# Altium footprint library Diode.PcbLib: 27 footprints (part 1 of 2)
Each footprint in its own frame and in the unit in brackets; x right, y up, seen from the top. Pads: shape width x height; smd on the part's side, far side on the other; paste and mask are expansions set on the pad; w line width, h text height; cw(c..) or ccw(c..) is an arc to the next point about the centre after c.
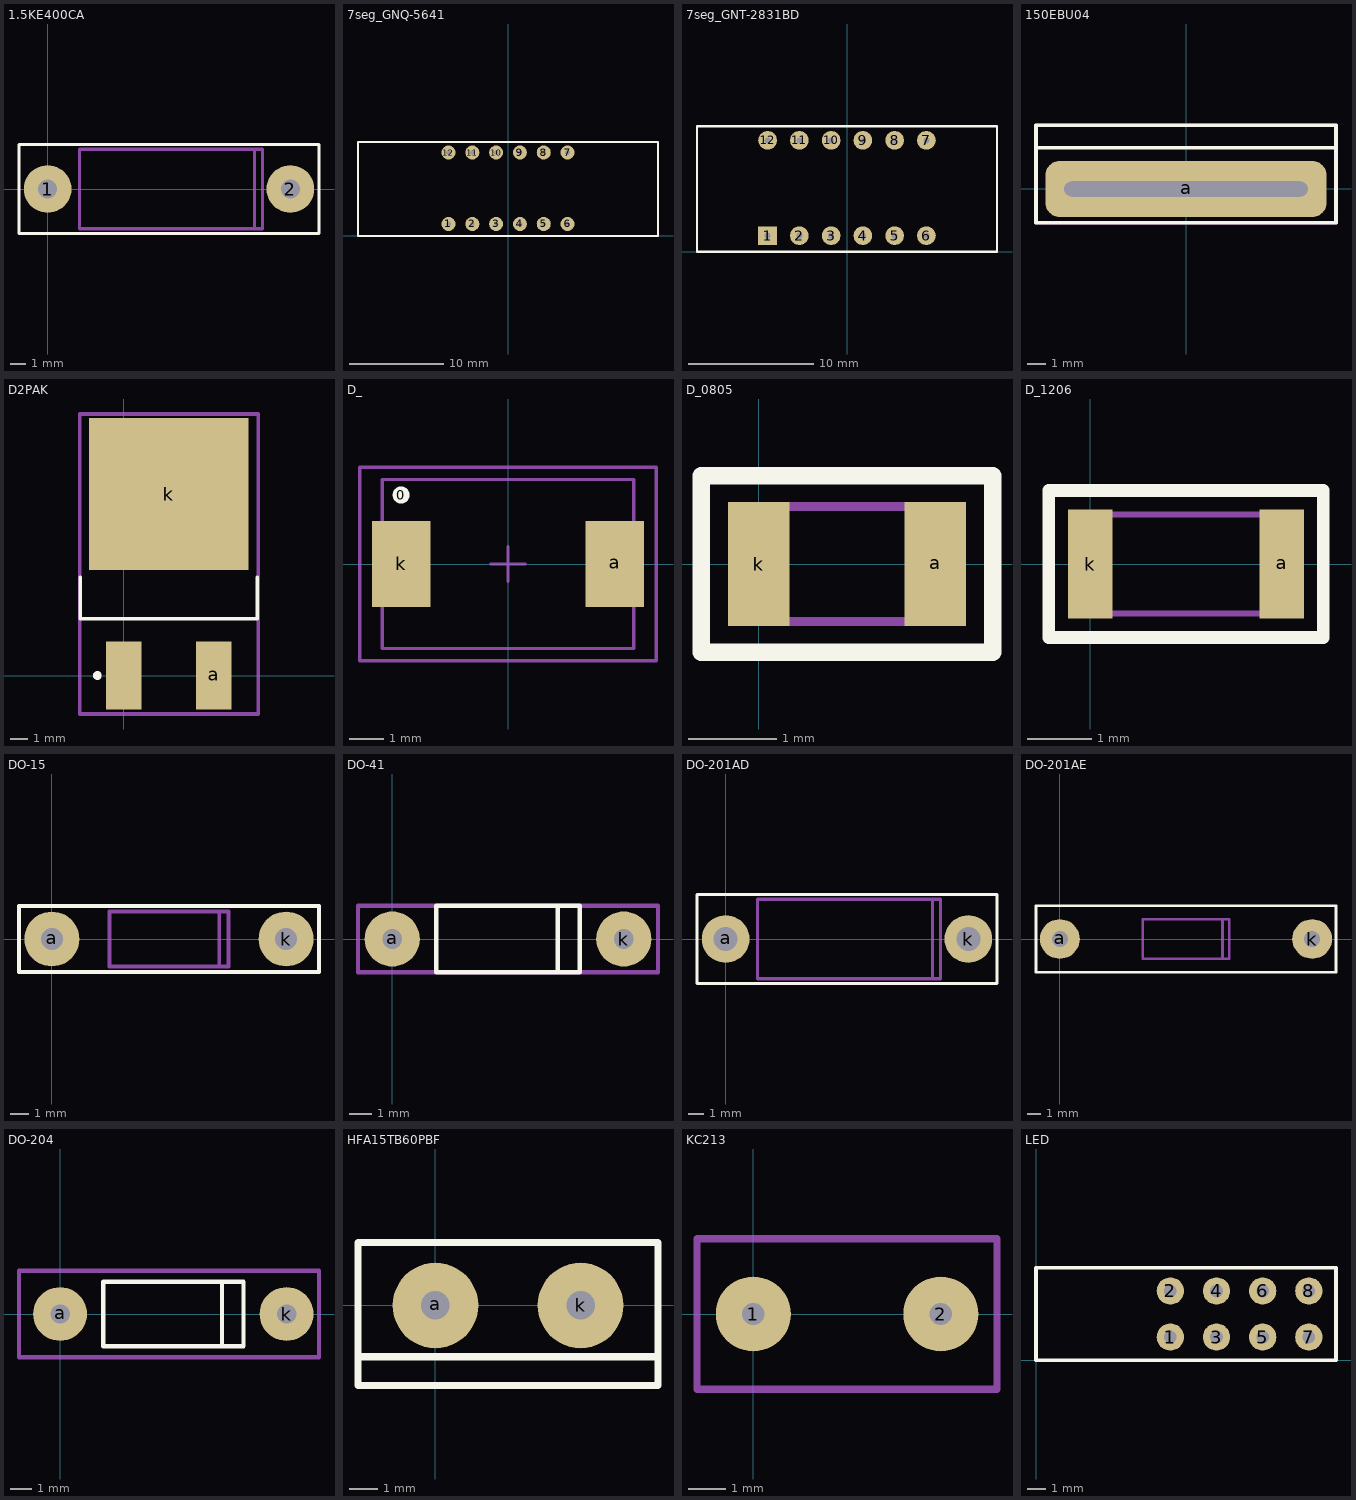
[diagram p0: the footprints below, top view; thin cyan lines are the x and y axes]

## 1.5KE400CA [mm]
pads (2):
  round 3 hole 1.2: 1(0,0) 2(15.25,0)
Top Overlay:
  lines w0.2: -1.8,-2.8 17.05,-2.8 17.05,2.8 -1.8,2.8 -1.8,-2.8
TopAssy:
  lines w0.2: 13,-2.5 13,2.5 ; 2,-2.5 13.5,-2.5 13.5,2.5 2,2.5 2,-2.5
3D body "User Library-DO-201AD.STEP": height 6.6, standoff -5, extent -0.66,-2.8 15.9,2.8

## 7seg_GNQ-5641 [mm]
pads (12):
  round 1.5 hole 0.5: 1(-6.35,1.27) 2(-3.81,1.27) 3(-1.27,1.27) 4(1.27,1.27) 5(3.81,1.27) 6(6.35,1.27) 7(6.35,8.89) 8(3.81,8.89) 9(1.27,8.89) 10(-1.27,8.89) 11(-3.81,8.89) 12(-6.35,8.89)
Top Overlay:
  lines w0.2: -16.002,0 -16.002,10 15.998,10 15.998,0 -16.002,0
3D body "User Library-7seg4digit_028.STEP": height 5.8, standoff -5.7, extent -16.05,-0.05 15.95,10.05

## 7seg_GNT-2831BD [mm]
pads (12):
  rect 1.5x1.5 hole 0.5: 1(-6.35,1.27)
  round 1.5 hole 0.5: 2(-3.81,1.27) 3(-1.27,1.27) 4(1.27,1.27) 5(3.81,1.27) 6(6.35,1.27) 7(6.35,8.89) 8(3.81,8.89) 9(1.27,8.89) 10(-1.27,8.89) 11(-3.81,8.89) 12(-6.35,8.89)
Top Overlay:
  lines w0.2: -12,0 12,0 12,10 -12,10 -12,0
3D body "User Library-IND GNT-2831BD.STEP": height 5.81, standoff -3.5, extent -12,-0.01 12,10

## 150EBU04 [mm]
pads (1):
  rrect50% 15x3 hole 0.8 slot 13 at 0 deg: a(0,0)
Top Overlay:
  lines w0.2: -8,2.2 8,2.2 ; -8,-1.8 8,-1.8 8,3.4 -8,3.4 -8,-1.8
TopAssy:
  lines w0.2: -8,-1.8 8,-1.8 8,3.4 -8,3.4 -8,-1.8
3D body: height 20, standoff 8, extent -7.999,-1.275 8,3.525
3D body: height -0.49, standoff -5.51, extent -2.01,-0.275 2.01,0.325
3D body: height 28, standoff 20, extent -8,2.225 8.001,3.525
3D body: height 8.25, standoff -10.25, extent -6.25,-0.275 6.251,0.325
3D body: height 26.01, standoff 21.99, extent -2.009,2.225 2.009,3.525

## D2PAK [mm]
pads (3):
  rect 2x3.85 smd: a(5.08,0) ""(0,0)
  rect 9x8.6 smd: k(2.54,10.25)
Top Overlay:
  circle w0.25: c-1.5,0 r0.125
  lines w0.2: -2.46,5.55 -2.46,3.2 7.54,3.2 7.54,5.55
TopAssy:
  lines w0.2: -2.5,-2.175 -2.5,14.775 7.6,14.775 7.6,-2.175 -2.5,-2.175
3D body "SW3dPS-DPAK.STEP": height 4.98, standoff -0.03, extent -2.54,-1.616 7.62,13.648

## D_ [mm] "Chip Capacitor, Body 3.2x2.5mm, IPC High Density"
height 4.1
pads (3):
  round 0.5 on Top Overlay: 0(-3.1,2)
  rect 1.7x2.5 smd: a(3.1,0) k(-3.1,0)
Mechanical 13:
  lines w0.1: -3.65,-2.45 -3.65,2.45 3.65,2.45 3.65,-2.45 -3.65,-2.45
Mechanical 15:
  lines w0.1: -0.5,0 0.5,0 ; 0,-0.5 0,0.5 ; -4.3,-2.8 -4.3,2.8 4.3,2.8 4.3,-2.8 -4.3,-2.8
3D body: height 1.3, standoff 0, extent -3.65,-2.45 3.65,2.45

## D_0805 [mm]
pads (2):
  rect 0.7x1.4 smd: a(2,0) k(0,0)
Top Overlay:
  lines w0.2: -0.65,-1 -0.65,1 2.65,1 2.65,-1 -0.65,-1
TopAssy:
  lines w0.1: 0,-0.65 2,-0.65 2,0.65 0,0.65 0,-0.65
3D body "User Library-D0805.STEP": height 0.76, standoff 0, extent -0.15,-0.675 2.15,0.675

## D_1206 [mm] "MELF Diode, 2-Leads, Body 3,5x1,7mm, IPC Medium Density"
height 1.7
pads (2):
  rect 0.7x1.7 smd: a(3,0) k(0,0)
Top Overlay:
  lines w0.2: -0.65,-1.15 3.65,-1.15 3.65,1.15 -0.65,1.15 -0.65,-1.15
TopAssy:
  lines w0.1: 0,-0.775 3,-0.775 3,0.775 0,0.775 0,-0.775
3D body "DIOMELF3520N.step": height 2, standoff 0, extent -0.25,-1 3.25,1

## DO-15 [mm]
pads (2):
  round 3 hole 1.2: a(0,0) k(12.8,0)
Top Overlay:
  lines w0.2: -1.8,-1.8 -1.8,1.8 14.6,1.8 14.6,-1.8 -1.8,-1.8
TopAssy:
  lines w0.2: 9.15,-1.5 9.15,1.5 ; 3.15,-1.5 3.15,1.5 9.65,1.5 9.65,-1.5 3.15,-1.5
3D body "User Library-DO-15-3.STEP": height 4.62, standoff -1, extent -0.4,-1.84 13.214,1.8

## DO-41 [mm]
pads (2):
  round 2.5 hole 0.9: a(0,0) k(10.5,0)
Top Overlay:
  lines w0.2: 7.5,-1.5 7.5,1.5 ; 2,-1.5 2,1.5 8.5,1.5 8.5,-1.5 2,-1.5
TopAssy:
  lines w0.2: -1.55,-1.5 -1.55,1.5 12.05,1.5 12.05,-1.5 -1.55,-1.5
3D body "User Library-DO-41-4.STEP": height 3.36, standoff -1.85, extent -0.43,-1.36 10.93,1.36

## DO-201AD [mm]
pads (2):
  round 3 hole 1.5: a(0,0) k(15.25,0)
Top Overlay:
  lines w0.2: -1.8,-2.8 -1.8,2.8 17.05,2.8 17.05,-2.8 -1.8,-2.8
TopAssy:
  lines w0.2: 13,-2.5 13,2.5 ; 2,-2.5 2,2.5 13.5,2.5 13.5,-2.5 2,-2.5
3D body "User Library-DO-201AD.STEP": height 6.6, standoff -5, extent -0.66,-2.8 15.9,2.8

## DO-201AE [mm]
pads (2):
  round 3 hole 1.2: a(0,0) k(19,0)
Top Overlay:
  lines w0.2: -1.8,-2.5 20.8,-2.5 20.8,2.5 -1.8,2.5 -1.8,-2.5
TopAssy:
  lines w0.2: 12.25,-1.5 12.25,1.5 ; 6.25,-1.5 12.75,-1.5 12.75,1.5 6.25,1.5 6.25,-1.5
3D body "User Library-DO-201AE.STEP": height 5.5, standoff -4.28, extent -0.5,-2.5 19.55,2.51

## DO-204 [mm]
pads (2):
  round 2.5 hole 0.9: a(0,0) k(10.5,0)
Top Overlay:
  lines w0.2: 7.5,-1.5 7.5,1.5 ; 2,-1.5 8.5,-1.5 8.5,1.5 2,1.5 2,-1.5
TopAssy:
  lines w0.2: -1.905,-2 12,-2 12,2 -1.905,2 -1.905,-2
3D body "User Library-DO-41-4.STEP": height 3.36, standoff -1.85, extent -0.43,-1.36 10.93,1.36

## HFA15TB60PBF [mm]
pads (2):
  round 3 hole 1: a(0,0) k(5.08,0)
Top Overlay:
  lines w0.254: -2.71,-1.8 7.79,-1.8 ; 0.29,-2.8 -2.71,-2.8 ; -2.71,-2.8 7.79,-2.8 7.79,2.2 -2.71,2.2 -2.71,-2.8
3D body "User Library-TO 220-2.STEP": height 26.3, standoff -2.08, extent -2.276,-2.275 7.376,2.225

## KC213 [mm]
pads (2):
  round 2 hole 0.6: 1(0,0) 2(5,0)
Mechanical 15:
  lines w0.2: -1.5,-2 6.5,-2 6.5,2 -1.5,2 -1.5,-2

## LED [mm]
pads (8):
  round 1.5 hole 0.7: 1(7.395,1.27) 2(7.395,3.81) 3(9.935,1.27) 4(9.935,3.81) 5(12.475,1.27) 6(12.475,3.81) 7(15.015,1.27) 8(15.015,3.81)
Top Overlay:
  lines w0.2: 0,0 16.51,0 16.51,5.08 0,5.08 0,0